# Altium schematic symbol library Boost_Converter.SchLib: 1 symbol
Pins are listed as number, name and electrical type; pins without a type are passive.

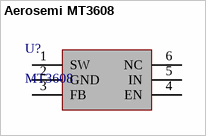
[diagram p0: symbol Aerosemi MT3608]

## Aerosemi MT3608
designator U?, comment MT3608
Integrated Circuit; Manufacturer_Name: Aerosemi; Description: High Efficiency 1.2MHz 2A Step Up Converter; Datasheet Link: https://www.olimex.com/Products/Breadboarding/BB-PWR-3608/resources/MT3608.pdf; Height: 1.45mm; Manufacturer_Part_Number: MT3608
footprint Aerosemi SOT23-6 (SOT23-6)
pins: 1 SW, 2 GND, 3 FB, 4 EN, 5 IN, 6 NC